# Altium footprint library Project_Oshinoko.PcbLib: 202 footprints (part 10 of 13)
Each footprint in its own frame and in the unit in brackets; x right, y up, seen from the top. Pads: shape width x height; smd on the part's side, far side on the other; paste and mask are expansions set on the pad; w line width, h text height; cw(c..) or ccw(c..) is an arc to the next point about the centre after c.
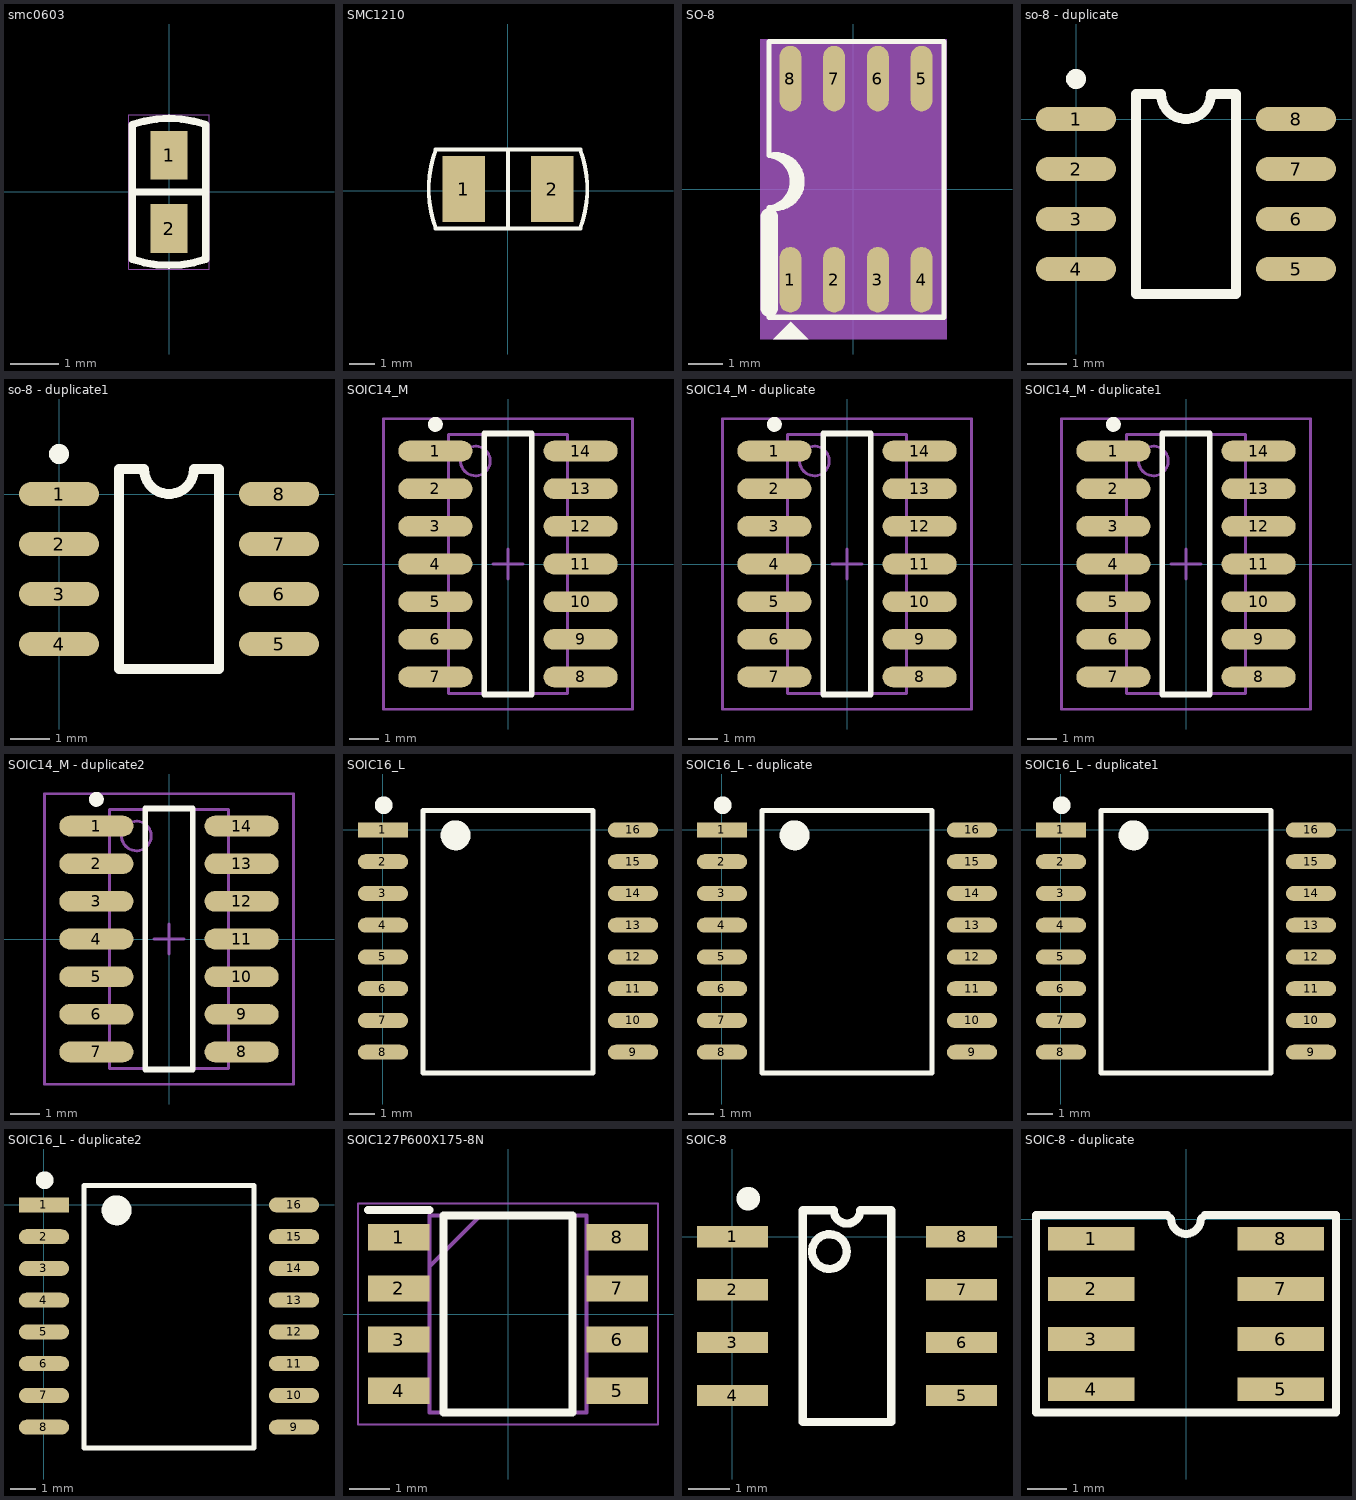
[diagram p9: the footprints below, top view; thin cyan lines are the x and y axes]

## smc0603 [mil] "SMC0603"
pads (2):
  rect 30x40 smd: 1(0,29.93) 2(0,-30.07)
Top Overlay:
  lines w6: -30,-0.07 30,-0.07 ; -30,-55.07 ccw(c0,32.43) 30,-55.07 30,54.93 ccw(c0,-30.07) -30,54.93 -30,-55.07
Mechanical 10:
  text "1" at -10,29.93 h25
  text "2" at -10,-30.07 h25
Mechanical 11:
  lines w1: -33,-63.07 33,-63.07 33,63.07 -33,63.07 -33,-63.07

## SMC1210 [mil]
pads (2):
  rect 65x100 smd: 1(-67,3) 2(68,3)
Top Overlay:
  lines w6: 0.5,-57 0.5,63 ; -109.5,-57 cw(c54.25,3) -109.5,63 110.5,63 cw(c-53.25,3) 110.5,-57 -109.5,-57
3D body "1210_C.step": height 37.01, standoff 0, extent -60,-47 65.98,51.43

## SO-8 [mm] "SO-8"
pads (8):
  oval 0.635x1.905 smd: 1(-1.832,-2.635) 2(-0.562,-2.635) 3(0.708,-2.635) 4(1.978,-2.635) 5(1.978,3.207) 6(0.708,3.207) 7(-0.562,3.207) 8(-1.832,3.207)
Top Overlay:
  pour cut-out: -2.324,-4.356 -1.308,-4.356 -1.816,-3.848
  lines w0.152: -2.451,-0.546 ccw(c-2.273,0.216) -2.451,0.978 ; -2.451,-0.546 ccw(c-2.54,0.216) -2.451,0.978 ; -2.451,-0.546 ccw(c-2.388,0.216) -2.451,0.978 ; -2.451,-0.546 -2.451,-3.721 2.629,-3.721 2.629,4.28 -0.292,4.28 -2.451,4.28 -2.451,0.978
  lines w0.508: -2.451,-3.467 -2.451,-0.8
Mechanical 8:
  text "2" at -0.562,-2.381 h0.64
  text "4" at 1.978,-2.381 h0.64
  text "6" at 0.708,3.461 h0.64
  text "1" at -1.832,-2.381 h0.64
  text "8" at -1.832,3.461 h0.64
  text "7" at -0.562,3.461 h0.64
  text "3" at 0.708,-2.381 h0.64
  text "5" at 1.978,3.461 h0.64
Mechanical 10:
  region: -2.705,-4.356 2.705,-4.356 2.705,4.356 -2.705,4.356

## so-8 - duplicate [mil]
pads (8):
  oval 80x24 smd: 1(0,0) 2(0,-50) 3(0,-100) 4(0,-150) 5(220,-150) 6(220,-100) 7(220,-50) 8(220,0)
Top Overlay:
  circle w10: c0,40 r5
  lines w10: 60,-175 60,25 85,25 ccw(c110,25) 135,25 160,25 160,-175 60,-175

## so-8 - duplicate1 [mil]
pads (8):
  oval 80x24 smd: 1(0,0) 2(0,-50) 3(0,-100) 4(0,-150) 5(220,-150) 6(220,-100) 7(220,-50) 8(220,0)
Top Overlay:
  circle w10: c0,40 r5
  lines w10: 60,-175 60,25 85,25 ccw(c110,25) 135,25 160,25 160,-175 60,-175

## SOIC14_M [mm]
pads (14):
  oval 2.5x0.7 smd: 1(-2.45,3.81) 2(-2.45,2.54) 3(-2.45,1.27) 4(-2.45,0) 5(-2.45,-1.27) 6(-2.45,-2.54) 7(-2.45,-3.81) 8(2.45,-3.81) 9(2.45,-2.54) 10(2.45,-1.27) 11(2.45,0) 12(2.45,1.27) 13(2.45,2.54) 14(2.45,3.81)
Top Overlay:
  circle w0.25: c-2.45,4.71 r0.125
  lines w0.2: -0.8,-4.4 0.8,-4.4 0.8,4.4 -0.8,4.4 -0.8,-4.4
Mechanical 13:
  circle w0.1: c-1.1,3.475 r0.5
  lines w0.1: -2,-4.375 2,-4.375 2,4.375 -2,4.375 -2,-4.375
Mechanical 15:
  lines w0.1: -0.5,0 0.5,0 ; 0,-0.5 0,0.5 ; -4.2,-4.9 4.2,-4.9 4.2,4.9 -4.2,4.9 -4.2,-4.9
3D body: height 1.75, standoff 0, extent -2,-4.375 2,4.375

## SOIC14_M - duplicate [mm]
pads (14):
  oval 2.5x0.7 smd: 1(-2.45,3.81) 2(-2.45,2.54) 3(-2.45,1.27) 4(-2.45,0) 5(-2.45,-1.27) 6(-2.45,-2.54) 7(-2.45,-3.81) 8(2.45,-3.81) 9(2.45,-2.54) 10(2.45,-1.27) 11(2.45,0) 12(2.45,1.27) 13(2.45,2.54) 14(2.45,3.81)
Top Overlay:
  circle w0.25: c-2.45,4.71 r0.125
  lines w0.2: -0.8,-4.4 -0.8,4.4 0.8,4.4 0.8,-4.4 -0.8,-4.4
Mechanical 13:
  circle w0.1: c-1.1,3.475 r0.5
  lines w0.1: -2,-4.375 -2,4.375 2,4.375 2,-4.375 -2,-4.375
Mechanical 15:
  lines w0.1: -0.5,0 0.5,0 ; 0,-0.5 0,0.5 ; -4.2,-4.9 -4.2,4.9 4.2,4.9 4.2,-4.9 -4.2,-4.9
3D body: height 1.75, standoff 0, extent -2,-4.375 2,4.375

## SOIC14_M - duplicate1 [mm]
pads (14):
  oval 2.5x0.7 smd: 1(-2.45,3.81) 2(-2.45,2.54) 3(-2.45,1.27) 4(-2.45,0) 5(-2.45,-1.27) 6(-2.45,-2.54) 7(-2.45,-3.81) 8(2.45,-3.81) 9(2.45,-2.54) 10(2.45,-1.27) 11(2.45,0) 12(2.45,1.27) 13(2.45,2.54) 14(2.45,3.81)
Top Overlay:
  circle w0.25: c-2.45,4.71 r0.125
  lines w0.2: -0.8,-4.4 0.8,-4.4 0.8,4.4 -0.8,4.4 -0.8,-4.4
Mechanical 13:
  circle w0.1: c-1.1,3.475 r0.5
  lines w0.1: -2,-4.375 2,-4.375 2,4.375 -2,4.375 -2,-4.375
Mechanical 15:
  lines w0.1: -0.5,0 0.5,0 ; 0,-0.5 0,0.5 ; -4.2,-4.9 4.2,-4.9 4.2,4.9 -4.2,4.9 -4.2,-4.9
3D body: height 1.75, standoff 0, extent -2,-4.375 2,4.375

## SOIC14_M - duplicate2 [mm]
pads (14):
  oval 2.5x0.7 smd: 1(-2.45,3.81) 2(-2.45,2.54) 3(-2.45,1.27) 4(-2.45,0) 5(-2.45,-1.27) 6(-2.45,-2.54) 7(-2.45,-3.81) 8(2.45,-3.81) 9(2.45,-2.54) 10(2.45,-1.27) 11(2.45,0) 12(2.45,1.27) 13(2.45,2.54) 14(2.45,3.81)
Top Overlay:
  circle w0.25: c-2.45,4.71 r0.125
  lines w0.2: -0.8,-4.4 0.8,-4.4 0.8,4.4 -0.8,4.4 -0.8,-4.4
Mechanical 13:
  circle w0.1: c-1.1,3.475 r0.5
  lines w0.1: -2,-4.375 2,-4.375 2,4.375 -2,4.375 -2,-4.375
Mechanical 15:
  lines w0.1: -0.5,0 0.5,0 ; 0,-0.5 0,0.5 ; -4.2,-4.9 4.2,-4.9 4.2,4.9 -4.2,4.9 -4.2,-4.9
3D body: height 1.75, standoff 0, extent -2,-4.375 2,4.375

## SOIC16_L [mm]
pads (16):
  rect 2x0.6 smd: 1(0,0)
  oval 2x0.6 smd: 2(0,-1.27) 3(0,-2.54) 4(0,-3.81) 5(0,-5.08) 6(0,-6.35) 7(0,-7.62) 8(0,-8.89) 9(10,-8.89) 10(10,-7.62) 11(10,-6.35) 12(10,-5.08) 13(10,-3.81) 14(10,-2.54) 15(10,-1.27) 16(10,0)
Top Overlay:
  circle w0.6: c2.905,-0.213 r0.3
  circle w0.356: c0.025,0.991 r0.178
  lines w0.2: 1.6,-9.713 8.4,-9.713 8.4,0.787 1.6,0.787 1.6,-9.713

## SOIC16_L - duplicate [mm]
pads (16):
  rect 2x0.6 smd: 1(0,0)
  oval 2x0.6 smd: 2(0,-1.27) 3(0,-2.54) 4(0,-3.81) 5(0,-5.08) 6(0,-6.35) 7(0,-7.62) 8(0,-8.89) 9(10,-8.89) 10(10,-7.62) 11(10,-6.35) 12(10,-5.08) 13(10,-3.81) 14(10,-2.54) 15(10,-1.27) 16(10,0)
Top Overlay:
  circle w0.6: c2.905,-0.213 r0.3
  circle w0.356: c0.025,0.991 r0.178
  lines w0.2: 1.6,-9.713 8.4,-9.713 8.4,0.787 1.6,0.787 1.6,-9.713

## SOIC16_L - duplicate1 [mm]
pads (16):
  rect 2x0.6 smd: 1(0,0)
  oval 2x0.6 smd: 2(0,-1.27) 3(0,-2.54) 4(0,-3.81) 5(0,-5.08) 6(0,-6.35) 7(0,-7.62) 8(0,-8.89) 9(10,-8.89) 10(10,-7.62) 11(10,-6.35) 12(10,-5.08) 13(10,-3.81) 14(10,-2.54) 15(10,-1.27) 16(10,0)
Top Overlay:
  circle w0.6: c2.905,-0.213 r0.3
  circle w0.356: c0.025,0.991 r0.178
  lines w0.2: 1.6,-9.713 8.4,-9.713 8.4,0.787 1.6,0.787 1.6,-9.713

## SOIC16_L - duplicate2 [mm]
pads (16):
  rect 2x0.6 smd: 1(0,0)
  oval 2x0.6 smd: 2(0,-1.27) 3(0,-2.54) 4(0,-3.81) 5(0,-5.08) 6(0,-6.35) 7(0,-7.62) 8(0,-8.89) 9(10,-8.89) 10(10,-7.62) 11(10,-6.35) 12(10,-5.08) 13(10,-3.81) 14(10,-2.54) 15(10,-1.27) 16(10,0)
Top Overlay:
  circle w0.6: c2.905,-0.213 r0.3
  circle w0.356: c0.025,0.991 r0.178
  lines w0.2: 1.6,-9.713 8.4,-9.713 8.4,0.787 1.6,0.787 1.6,-9.713

## SOIC127P600X175-8N [mm]
pads (8):
  rect 1.525x0.65 smd: 1(-2.712,1.905) 2(-2.712,0.635) 3(-2.712,-0.635) 4(-2.712,-1.905) 5(2.712,-1.905) 6(2.712,-0.635) 7(2.712,0.635) 8(2.712,1.905)
Top Overlay:
  lines w0.2: -3.475,2.58 -1.95,2.58 ; -1.6,-2.45 1.6,-2.45 1.6,2.45 -1.6,2.45 -1.6,-2.45
Mechanical 13:
  lines w0.1: -1.95,1.18 -0.68,2.45 ; -1.95,-2.45 1.95,-2.45 1.95,2.45 -1.95,2.45 -1.95,-2.45
Mechanical 15:
  lines w0.05: -3.725,-2.75 3.725,-2.75 3.725,2.75 -3.725,2.75 -3.725,-2.75
3D body "NE555DR.stp": height 1.75, standoff 0, extent -3,-2.45 3,2.45

## SOIC-8 [mm]
pads (8):
  rect 1.7x0.51 smd: 1(0,0) 2(0,-1.27) 3(0,-2.54) 4(0,-3.81) 5(5.5,-3.81) 6(5.5,-2.54) 7(5.5,-1.27) 8(5.5,0)
Top Overlay:
  circle w0.508: c0.378,0.914 r0.028
  circle w0.2: c2.327,-0.356 r0.417
  lines w0.2: 1.685,-4.445 1.685,-3.175 1.685,-0.635 1.685,0.635 2.432,0.635 ccw(c2.75,0.635) 3.067,0.635 3.815,0.635 3.815,-4.445 1.685,-4.445

## SOIC-8 - duplicate [mm]
pads (8):
  rect 2.2x0.6 smd: 1(-2.4,-0.5) 2(-2.4,-1.77) 3(-2.4,-3.04) 4(-2.4,-4.31) 5(2.4,-4.31) 6(2.4,-3.04) 7(2.4,-1.77) 8(2.4,-0.5)
Top Overlay:
  lines w0.2: -3.8,-4.9 3.8,-4.9 3.8,0.1 0.475,0.1 0.375,0 cw(c0,0) -0.375,0 -0.475,0.1 -3.8,0.1 -3.8,-4.9
3D body "User Library-SOIC-8-1.STEP": height 1.75, standoff 0, extent -3,-4.85 3,0.05